# Altium schematic symbol library Res_Stackpole_Electronics_Inc._CF14JT1K00_eec.SchLib: 1 symbol
Pins are listed as number, name and electrical type; pins without a type are passive.

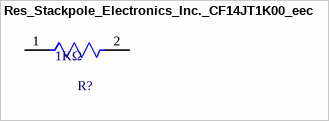
[diagram p0: symbol Res_Stackpole_Electronics_Inc._CF14JT1K00_eec]

## Res_Stackpole_Electronics_Inc._CF14JT1K00_eec
designator R?  Resistance: 1KΩ
RES 1K OHM 1/4W 5% CARBON FILM; Part Number: CF14JT1K00; Manufacturer: Stackpole Electronics Inc.; Value: 1KΩ; Temperature Coefficient: 0/ -400ppm/°C; Power: 250mW; helpURL: https://upverter.com/upn/revision/429fdfafcb133a34/; ComponentLink2Description: Datasheet; Temperature: -55°C to +155°C; Package: Axial; Supplier 2: Mouser; Price: 0.018380078196; Supplier 1: Digi-Key; ComponentLink1URL: https://upverter.com/upn/revision/429fdfafcb133a34/; Supplier Part Number 1: CF14JT1K00CT-ND; ComponentLink1Description: Upverter; ComponentLink2URL: https://www.seielect.com/catalog/SEI-CF_CFM.pdf; RoHS: TRUE; Ipc Land Pattern Name: RESAD956W80L600D230; Tolerance: ±5%; Temperature Range High: +155°C; Digikey Description: RES 1K OHM 1/4W 5% CARBON FILM; Digikey Part Number: CF14JT1K00CT-ND; Lead Free: yes; Temperature Range Low: -55°C
footprint Stackpole_Electronics_Inc._CF14JT1K00_0
pins: 1, 2